# Altium schematic symbol library ERJ-3EKF7502V.SchLib: 1 symbol
Pins are listed as number, name and electrical type; pins without a type are passive.

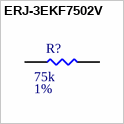
[diagram p0: symbol ERJ-3EKF7502V]

## ERJ-3EKF7502V
designator R?  Tolerance: 1%  Resistance: 75k  (hidden comment: ERJ-3EKF7502V)
RES SMD 75K OHM 1% 1/10W 0603; MFR: Panasonic; Qualifications: AEC-Q200; PN: ERJ-3EKF7502V; Footprint: RES0603; ComponentLink1Description: Datasheet; ComponentLink1URL: https://www.mouser.ca/datasheet/2/315/AOA0000C304-1149620.pdf; Power Rating: 1/10W; Package: 0603; Supplier 1: Digi-Key; Supplier Part Number 1: P75.0KHCT-ND
footprint RES0603 (Generic 0603)
pins: 1, 2